# EAGLE library part TXB0108 (library ds_ic_peripherals)
TXB0108 8-Bit Bidirectional Voltage-Level Translator with Auto-Direction Sensing and ±15-kV ESD Protection
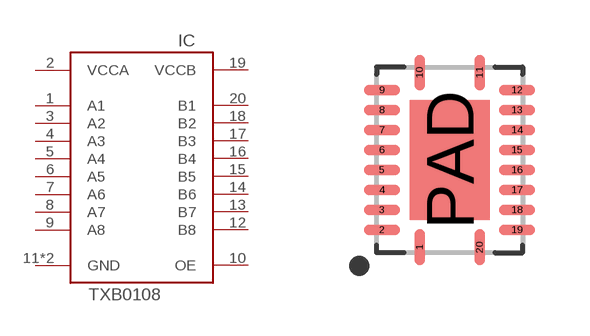
[diagram p83: symbol with the pads of VQFN24; footprint VQFN24]

Designator prefix IC

## TXB0108RGY (DATASHEET: https://www.ti.com/lit/ds/symlink/txs0108e.pdf; DESCRIPTION: 1.65V~5.5V 1 8 1.4V~3.6V 60Mbps VQFN-20-EP(3.7x4.7) Translators, Level Shifters ROHS; LCSC_PART: C90706; VALUE: TXS0108ERGYR)  [VQFN24]
1  A1
2  VCCA  sup
3  A2
4  A3
5  A4
6  A5
7  A6
8  A7
9  A8
10  OE  in
11  GND  sup
12  B8
13  B7
14  B6
15  B5
16  B4
17  B3
18  B2
19  VCCB  sup
20  B1
PAD  GND  sup

## Footprint VQFN24 (pad centres in mm)
24-QFN, 0.50 mm pitch, 3.50 X 4.50 X 1.00 mm body, 2.00 X 3.00 mm thermal pad 24-pin QFN package with 0.50 mm pitch with body size 3.50 X 4.50 X 1.00 mm and thermal pad size 2.00 X 3.00 mm
smd 0.264 x 0.896: 1 -0.75,-2.187; 10 -0.75,2.187; 11 0.75,2.187; 20 0.75,-2.187
smd 0.896 x 0.264: 2 -1.687,-1.75; 3 -1.687,-1.25; 4 -1.687,-0.75; 5 -1.687,-0.25; 6 -1.687,0.25; 7 -1.687,0.75; 8 -1.687,1.25; 9 -1.687,1.75; 12 1.687,1.75; 13 1.687,1.25; 14 1.687,0.75; 15 1.687,0.25; 16 1.687,-0.25; 17 1.687,-0.75; 18 1.687,-1.25; 19 1.687,-1.75
smd 2 x 3: PAD 0,0